# EAGLE library part FH19*C-5S-0.5SH (library Connector)
CONN FFC BOTTOM 5POS 0.50MM R/A Datasheet <https://www.hirose.com/product/en/download_file/key_name/FH19C__FH19SC/category/Catalog/doc_file_id/31611/?file_category_id=4&item_id=62&is_series=1>
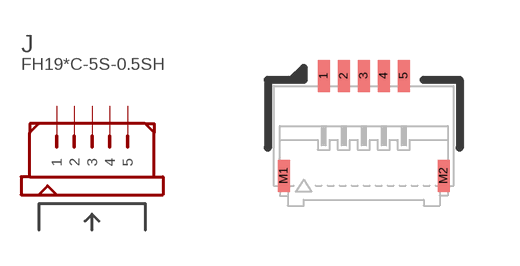
[diagram p9: symbol with the pads of FH19*C-5S-0.5SH; footprint FH19*C-5S-0.5SH]

Designator prefix J

## FH19C-5S-0.5SH (MFPN: FH19C-5S-0.5SH)  [FH19*C-5S-0.5SH]
1  1  pas
2  2  pas
3  3  pas
4  4  pas
5  5  pas
M1  MT1  pas
M2  MT2  pas

## Footprint FH19*C-5S-0.5SH (pad centres in mm)
CONN FFC BOTTOM 5POS 0.50MM R/A Datasheet <https://www.hirose.com/product/en/download_file/key_name/FH19C__FH19SC/category/Catalog/doc_file_id/31611/?file_category_id=4&item_id=62&is_series=1>
smd 0.3 x 0.8: 1 -1,1.5; 2 -0.5,1.5; 3 0,1.5; 4 0.5,1.5; 5 1,1.5; M1 -2,-1; M2 2,-1